# EAGLE library part SLIDE_SWITCH_DPDT (library ASL)
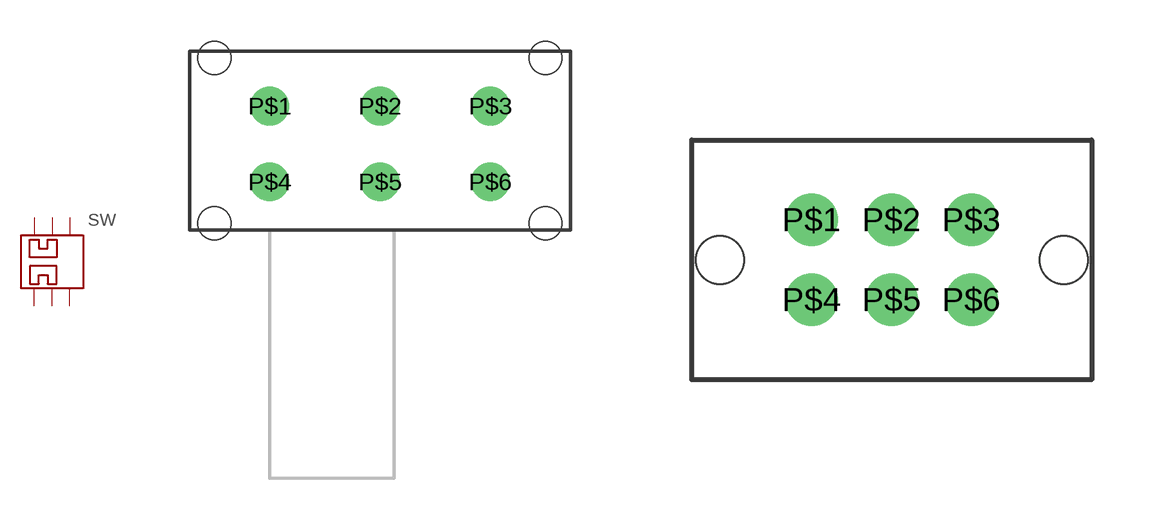
[diagram p17: symbol with the pads of EG2219; footprints EG2219, EG2207]

Designator prefix SW

## SLIDE_SWITCH_DPDTRA  [EG2219]
P$1  P$1
P$2  P$2
P$3  P$3
P$4  P$4
P$5  P$5
P$6  P$6

## SLIDE_SWITCH_DPDTTOP  [EG2207]
Pads as for EG2219

## Footprint EG2219 (pad centres in mm)
EG22119 http://search.digikey.com/scripts/DkSearch/dksus.dll?Detail&name=EG4367-ND http://www.e-switch.com/Portals/0/Series_Pdf/EG.pdf
drill 0.9: P$1 -4,1.25; P$2 0,1.25; P$3 4,1.25; P$4 -4,-1.5; P$5 0,-1.5; P$6 4,-1.5
hole 1.2 at -6,3
hole 1.2 at -6,-3
hole 1.2 at 6,3
hole 1.2 at 6,-3

## Footprint EG2207 (pad centres in mm)
drill 0.8: P$1 -2,1; P$2 0,1; P$3 2,1; P$4 -2,-1; P$5 0,-1; P$6 2,-1
hole 1.2 at 4.3,0
hole 1.2 at -4.3,0